# EAGLE library part 61001021121 (library Wurth_Elektronik2)
WR-PHD 2.54mm Dual SMT Pin Header, 10 Pins =>Code : Con_BTB_PHD_2.54_2_61001021121 <http://katalog.we-online.de/media/images/eican/Con_BTB_PHD_2.54_2_6100xx21121_pf2.jpg> Details see: http://katalog.we-online.de/en/em/610_0xx_211_21 Created 2014-05-29, Karrer Zheng 2014 (C) Würth Elektronik
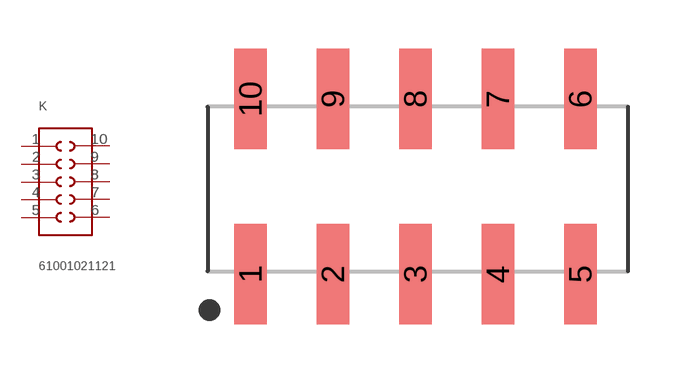
[diagram p75: symbol with the pads of 61001021121; footprint 61001021121]

Designator prefix K

## 61001021121  [61001021121]
1  1  pas
2  2  pas
3  3  pas
4  4  pas
5  5  pas
6  6  pas
7  7  pas
8  8  pas
9  9  pas
10  10  pas

## Footprint 61001021121 (pad centres in mm)
WR-PHD 2.54mm Dual SMT Pin Header, 10 Pins
smd 1 x 3.1: 1 -3.81,-2.7; 2 -1.27,-2.7; 3 1.27,-2.7; 4 3.81,-2.7; 5 6.35,-2.7; 6 6.35,2.7; 7 3.81,2.7; 8 1.27,2.7; 9 -1.27,2.7; 10 -3.81,2.7